# EAGLE library part ATTINY84 (library pimoroni)
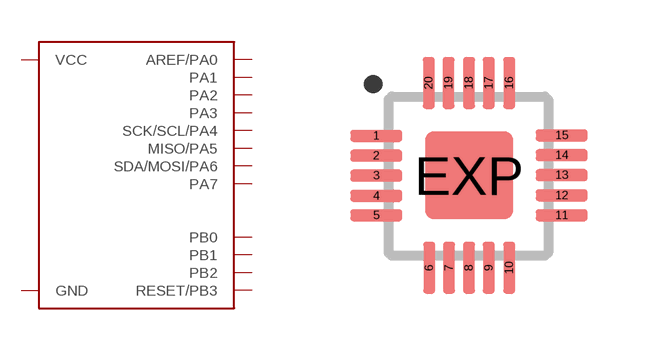
[diagram p42: symbol with the pads of MLF20-4X4-TH; footprint MLF20-4X4-TH]

Designator prefix -

## ATTINY84  [MLF20-4X4-TH]
1  SCK/SCL/PA4
2  PA3
3  PA2
4  PA1
5  AREF/PA0
8  GND
9  VCC
11  PB0
12  PB1
13  RESET/PB3
14  PB2
15  PA7
16  SDA/MOSI/PA6
20  MISO/PA5
EXP  GND

## Footprint MLF20-4X4-TH (pad centres in mm)
HP-VFQFP-N20 QFN 20 -5 x 5 mm Micro Lead Frame package (MLF) Source: http://www.atmel.com/dyn/resources/prod_documents/doc4533.pdf
smd 1.3 x 0.3: 1 -3.324,-0.008; 2 -3.324,-0.506; 3 -3.324,-1.003; 4 -3.324,-1.514; 5 -3.324,-1.998; 11 1.317,-1.998; 12 1.317,-1.501; 13 1.317,-0.991; 14 1.317,-0.493; 15 1.317,0.005
smd 0.3 x 1.3: 6 -1.998,-3.311; 7 -1.501,-3.311; 8 -1.003,-3.311; 9 -0.506,-3.311; 10 0.005,-3.311; 16 0.005,1.317; 17 -0.506,1.317; 18 -1.003,1.317; 19 -1.514,1.317; 20 -2.011,1.317
smd 2.2 x 2.2: EXP -1,-1